# Altium schematic symbol library B82804A2.SchLib: 1 symbol
Pins are listed as number, name and electrical type; pins without a type are passive.

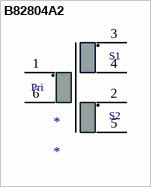
[diagram p0: symbol B82804A2]

## B82804A2
designator *
pins: 1, 2, 3, 4, 5, 6
text: S1; Pri; S2